# Altium footprint library Ultimate Sensor Fusion Solution.PcbLib: 1 footprints
Each footprint in its own frame and in the unit in brackets; x right, y up, seen from the top. Pads: shape width x height; smd on the part's side, far side on the other; paste and mask are expansions set on the pad; w line width, h text height; cw(c..) or ccw(c..) is an arc to the next point about the centre after c.
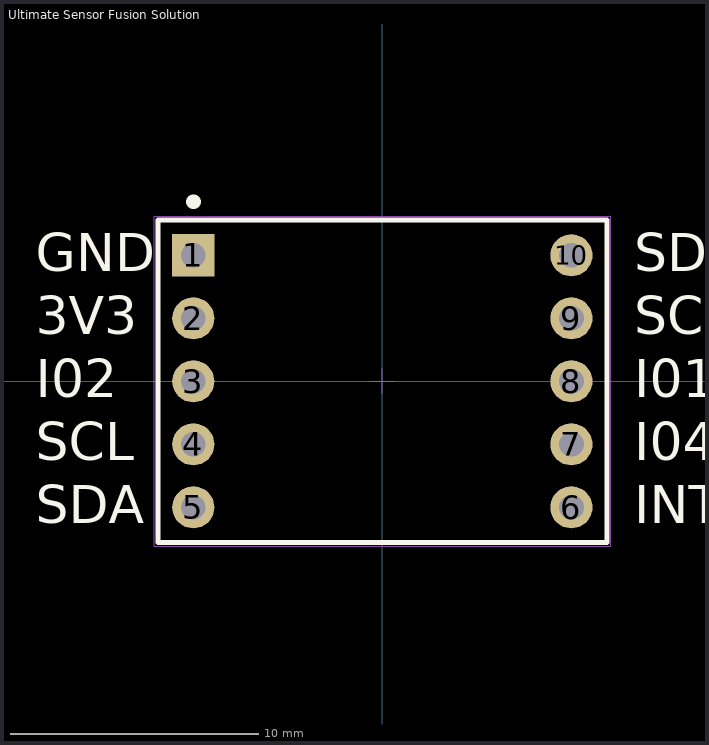
[diagram p0: the footprint, top view; thin cyan lines are the x and y axes]

## Ultimate Sensor Fusion Solution [mm]
pads (10):
  rect 1.7x1.7 hole 1: 1(-7.62,5.08)
  round 1.7 hole 1: 2(-7.62,2.54) 3(-7.62,0) 4(-7.62,-2.54) 5(-7.62,-5.08) 6(7.62,-5.08) 7(7.62,-2.54) 8(7.62,0) 9(7.62,2.54) 10(7.62,5.08)
Top Overlay:
  circle w0.6: c-7.62,7.239 r0
  lines w0.2: -9.05,-6.5 -9.05,6.5 9.05,6.5 9.05,-6.5 -9.05,-6.5
  text "INT" at 10.16,-5.715 h1.52
  text "I04" at 10.16,-3.175 h1.52
  text "I01" at 10.16,-0.635 h1.52
  text "SCM" at 10.16,1.905 h1.52
  text "SDM" at 10.16,4.445 h1.52
  text "SDA" at -13.97,-5.715 h1.52
  text "SCL" at -13.97,-3.175 h1.52
  text "I02" at -13.97,-0.635 h1.52
  text "3V3" at -13.97,1.905 h1.52
  text "GND" at -13.97,4.445 h1.52
Mechanical 13:
  lines w0.1: -9.05,-6.5 9.05,-6.5 9.05,6.5 -9.05,6.5 -9.05,-6.5
Mechanical 15:
  lines w0.05: -0.5,0 0.5,0 ; 0,-0.5 0,0.5 ; -9.2,-6.65 9.2,-6.65 9.2,6.65 -9.2,6.65 -9.2,-6.65
3D body "CircuitWorks-HEADER 2_54 VERTICAL 5X.step": height 8.52, standoff -2.48, extent 6.37,-6.35 8.87,6.35
3D body "CircuitWorks-HEADER 2_54 VERTICAL 5X.step": height 8.52, standoff -2.48, extent -8.87,-6.35 -6.37,6.35